# Altium integrated library CC0603KRX7R9BB103.IntLib: 1 symbol
Pins are listed as number, name and electrical type; pins without a type are passive.

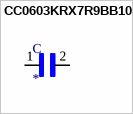
[diagram p0: symbol CC0603KRX7R9BB103]

## CC0603KRX7R9BB103
designator C
10000pF Â±10% 50V Ceramic Capacitor X7R 0603 _1608 Metric_; MF: Yageo; MP: CC0603KRX7R9BB103; Value: *; Package: 0603 Yageo; Digi-Key_Purchase_URL: https://www.digikey.de/product-detail/en/yageo/CC0603KRX7R9BB103/311-1085-1-ND/302995?utm_source=snapeda&utm_medium=aggregator&utm_campaign=symbol; SnapEDA_Link: https://www.snapeda.com/parts/CC0603KRX7R9BB103/Yageo/view-part/105553/?ref=snap; Digi-Key_Part_Number: 311-1085-1-ND
footprint CAPC1608X90
pins: 1, 2